# Altium footprint library PcbLib1.PcbLib: 1 footprints
Each footprint in its own frame and in the unit in brackets; x right, y up, seen from the top. Pads: shape width x height; smd on the part's side, far side on the other; paste and mask are expansions set on the pad; w line width, h text height; cw(c..) or ccw(c..) is an arc to the next point about the centre after c.
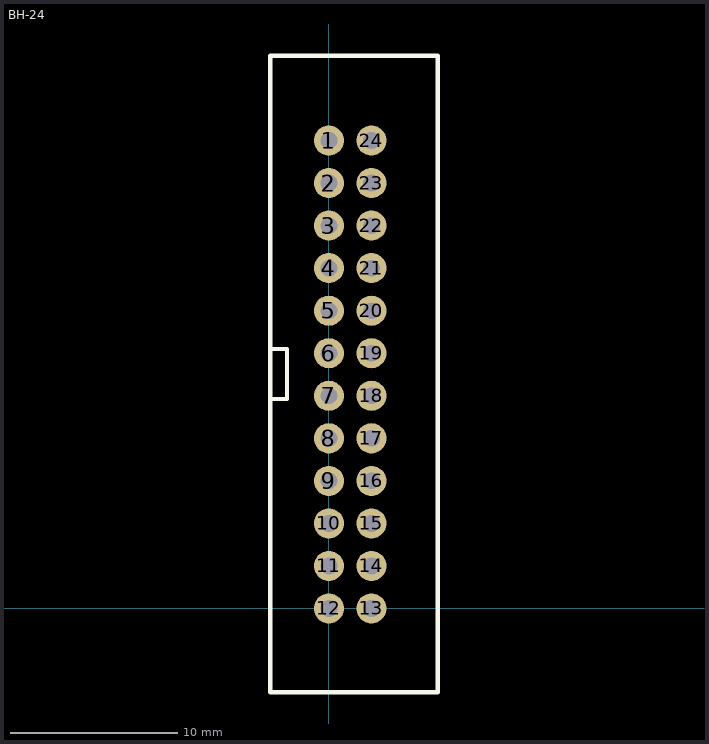
[diagram p0: the footprint, top view; thin cyan lines are the x and y axes]

## BH-24 [mm]
pads (24):
  round 1.8 hole 1 unplated mask+0.102: 1(0,27.94) 2(0,25.4) 3(0,22.86) 4(0,20.32) 5(0,17.78) 6(0,15.24) 7(0,12.7) 8(0,10.16) 9(0,7.62) 10(0,5.08) 11(0,2.54) 12(0,0) 13(2.54,0) 14(2.54,2.54) 15(2.54,5.08) 16(2.54,7.62) 17(2.54,10.16) 18(2.54,12.7) 19(2.54,15.24) 20(2.54,17.78) 21(2.54,20.32) 22(2.54,22.86) 23(2.54,25.4) 24(2.54,27.94)
Top Overlay:
  lines w0.254: -3.5,12.5 -2.5,12.5 -2.5,15.5 -3.5,15.5 ; -3.5,-5 -3.5,33 -3,33 6,33 6.5,33 6.5,-5 -3.5,-5
3D body "User Library-IDC-24MS.step": height 9.1, standoff -3, extent -3.258,-5.045 6.342,33.035